# Altium schematic symbol library 2pinconn.SchLib: 1 symbol
Pins are listed as number, name and electrical type; pins without a type are passive.

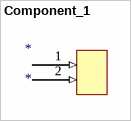
[diagram p0: symbol Component_1]

## Component_1
designator *
footprint 2pinSrewconnectyor
pins: 1 (in), 2 (in)